# EAGLE library part LTC3566 (library SHC)
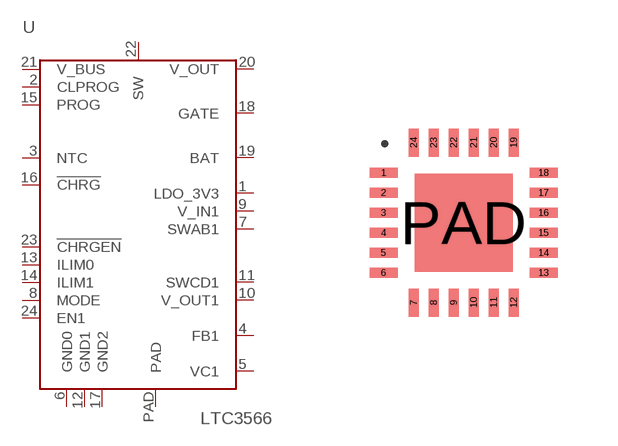
[diagram p3: symbol with the pads of QFN-24; footprint QFN-24]

Designator prefix -

## LTC3566  [QFN-24]
1  LDO_3V3  pwr
2  CLPROG
3  NTC
4  FB1  pwr
5  VC1  pwr
6  GND0  pwr
7  SWAB1  pwr
8  MODE  in
9  V_IN1  pwr
10  V_OUT1  pwr
11  SWCD1  pwr
12  GND1  pwr
13  ILIM0  in
14  ILIM1  in
15  PROG
16  !CHRG  out
17  GND2  pwr
18  GATE  pwr
19  BAT  pwr
20  V_OUT  pwr
21  V_BUS
22  SW  pwr
23  !CHRGEN  in
24  EN1  in
PAD  PAD  pwr

## Footprint QFN-24 (pad centres in mm)
smd 0.7 x 0.25: 1 -2,1.25; 2 -2,0.75; 3 -2,0.25; 4 -2,-0.25; 5 -2,-0.75; 6 -2,-1.25; 13 2,-1.25; 14 2,-0.75; 15 2,-0.25; 16 2,0.25; 17 2,0.75; 18 2,1.25
smd 0.25 x 0.7: 7 -1.25,-2; 8 -0.75,-2; 9 -0.25,-2; 10 0.25,-2; 11 0.75,-2; 12 1.25,-2; 19 1.25,2; 20 0.75,2; 21 0.25,2; 22 -0.25,2; 23 -0.75,2; 24 -1.25,2
smd 2.45 x 2.45: PAD 0,0